# Altium schematic symbol library AD711JRZ-REEL.SchLib: 1 symbol
Pins are listed as number, name and electrical type; pins without a type are passive.

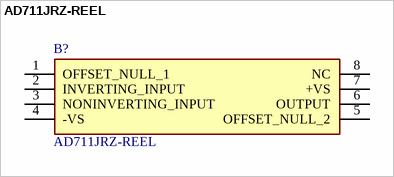
[diagram p0: symbol AD711JRZ-REEL]

## AD711JRZ-REEL
designator B?
AD711JRZ-REEL, Operational Amplifier BiFET 4MHz Rail-Rail, 8-Pin SOIC; Manufacturer_Name: Analog Devices; Geometry.Height: 1.75mm; Mouser Part Number: 584-AD711JRZ-R; Mouser Price/Stock: https://www.mouser.co.uk/ProductDetail/Analog-Devices/AD711JRZ-REEL?qs=NmRFExCfTkE2B2XETlmmwA%3D%3D; Manufacturer_Part_Number: AD711JRZ-REEL; Datasheet Link: http://www.analog.com/media/en/technical-documentation/data-sheets/AD711.pdf
footprint SOIC127P600X175-8N
pins: 1 OFFSET_NULL_1, 2 INVERTING_INPUT, 3 NONINVERTING_INPUT, 4 -VS, 5 OFFSET_NULL_2, 6 OUTPUT, 7 +VS, 8 NC